# EAGLE library part ESP-WROOM-32 (library wireless)
ESP-WROOM-32 Datasheet:https://www.espressif.com/sites/default/files/documentation/esp32-wroom-32_datasheet_en.pdf
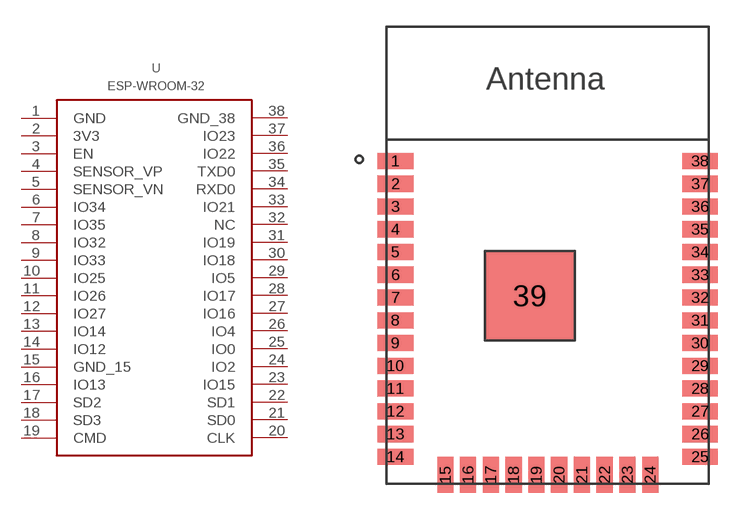
[diagram p3: symbol with the pads of ESP-WROOM-32; footprint ESP-WROOM-32]

Designator prefix -

## ESP-WROOM-32  [ESP-WROOM-32]
1  GND
2  3V3
3  EN
4  SENSOR_VP
5  SENSOR_VN
6  IO34
7  IO35
8  IO32
9  IO33
10  IO25
11  IO26
12  IO27
13  IO14
14  IO12
15  GND_15
16  IO13
17  SD2
18  SD3
19  CMD
20  CLK
21  SD0
22  SD1
23  IO15
24  IO2
25  IO0
26  IO4
27  IO16
28  IO17
29  IO5
30  IO18
31  IO19
32  NC
33  IO21
34  RXD0
35  TXD0
36  IO22
37  IO23
38  GND_38

## Footprint ESP-WROOM-32 (pad centres in mm)
smd 2 x 0.9: 1 0.5,18.01; 2 0.5,16.74; 3 0.5,15.47; 4 0.5,14.2; 5 0.5,12.93; 6 0.5,11.66; 7 0.5,10.39; 8 0.5,9.12; 9 0.5,7.85; 10 0.5,6.58; 11 0.5,5.31; 12 0.5,4.04; 13 0.5,2.77; 14 0.5,1.5; 25 17.5,1.5; 26 17.5,2.77; 27 17.5,4.04; 28 17.5,5.31; 29 17.5,6.58; 30 17.5,7.85; 31 17.5,9.12; 32 17.5,10.39; 33 17.5,11.66; 34 17.5,12.93; 35 17.5,14.2; 36 17.5,15.47; 37 17.5,16.74; 38 17.5,18.01
smd 0.9 x 2: 15 3.285,0.5; 16 4.555,0.5; 17 5.825,0.5; 18 7.095,0.5; 19 8.365,0.5; 20 9.635,0.5; 21 10.905,0.5; 22 12.175,0.5; 23 13.445,0.5; 24 14.715,0.5
smd 5 x 5: 39 8,10.5